# Altium footprint library PcbLib1.PcbLib: 9 footprints
Each footprint in its own frame and in the unit in brackets; x right, y up, seen from the top. Pads: shape width x height; smd on the part's side, far side on the other; paste and mask are expansions set on the pad; w line width, h text height; cw(c..) or ccw(c..) is an arc to the next point about the centre after c.
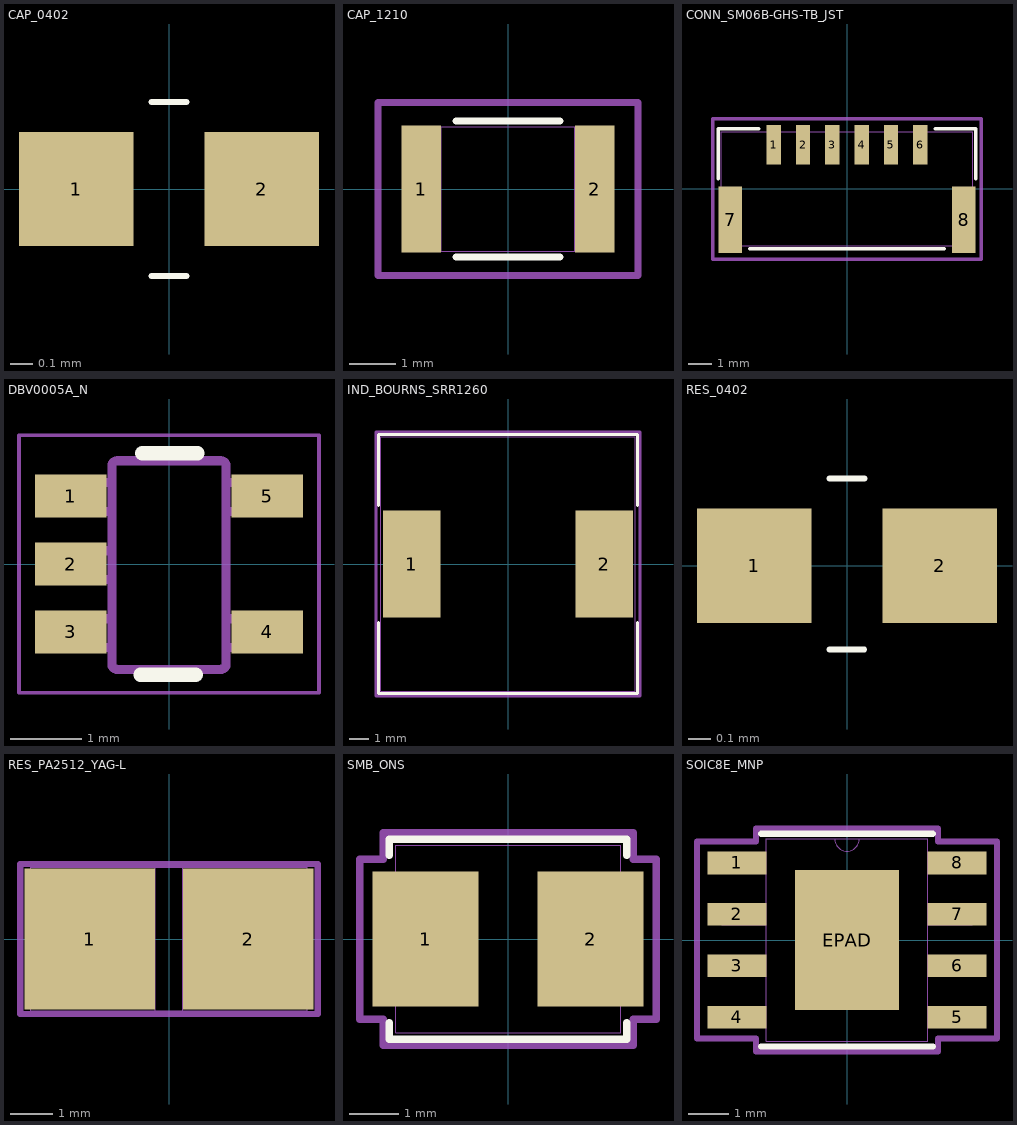
[diagram p0: the footprints below, top view; thin cyan lines are the x and y axes]

## CAP_0402 [mm] "Capacitor"
height 0.5
pads (2):
  rect 0.5x0.5 smd mask+0.051: 1(-0.406,0) 2(0.406,0)
Top Overlay:
  lines w0.025: -0.076,-0.381 0.076,-0.381 ; -0.076,0.381 0.076,0.381
3D body "c0402c101j5gactu.stp": height 0.55, standoff 0, extent -0.525,-0.279 0.525,0.271

## CAP_1210 [mil]
pads (2):
  rect 34x108 smd paste+0 mask+0: 1(-74,0) 2(74,0)
Top Overlay:
  lines w6: -44.53,-58 44.53,-58 ; -44.53,58 44.53,58
Mechanical 13:
  circle w0: c-69,0 r3
  lines w1: -69,-53 -69,53 ; -69,-53 -57,-53 -57,53 -69,53 ; -69,-53 69,-53 ; -69,-53 -69,53 ; -69,53 69,53 ; 69,-53 57,-53 57,53 69,53 ; 69,-53 69,53 ; 69,-53 69,53
Mechanical 15:
  lines w6: -111,-74 -111,74 111,74 111,-74 -111,-74
3D body "CAP_GRM32E_MUR.step": height 105.98, standoff 0, extent -69.02,-52.99 69.02,52.99

## CONN_SM06B-GHS-TB_JST [mil]
pads (8):
  rect 24x67 smd paste+0 mask+0: 1(-123.03,73.85) 2(-73.82,73.85) 3(-24.61,73.85) 4(24.61,73.85) 5(73.82,73.85) 6(123.03,73.85)
  rect 39x112 smd paste-56 mask-56: 7(-195.87,-52.14) 8(195.87,-52.14)
Top Overlay:
  lines w6: -216.5,16.91 -216.5,100.5 -148.13,100.5 ; -163.27,-100.5 163.27,-100.5 ; 148.13,100.5 216.5,100.5 216.5,16.91
Mechanical 13:
  lines w1: -211.5,-95.5 211.5,-95.5 211.5,95.5 -211.5,95.5 -211.5,-95.5
Mechanical 15:
  lines w6: -225.37,-118.14 -225.37,117.35 225.37,117.35 225.37,-118.14 -225.37,-118.14
3D body "SM06B-GHS-TB.STEP": height 167.32, standoff 0, extent -211.61,-95.63 211.61,95.32

## DBV0005A_N [mm]
pads (5):
  rect 1x0.6 smd paste+0 mask+0.051: 1(-1.375,0.95) 2(-1.375,0) 3(-1.375,-0.95) 4(1.375,-0.95) 5(1.375,0.95)
Top Overlay:
  lines w0.2: -0.4,-1.55 0.375,-1.55 ; -0.375,1.55 0.4,1.55
Mechanical 13:
  lines w0.127: -0.801,1.371 cw(c-0.725,1.37) -0.725,1.446 ; -0.801,1.37 -0.801,1.371 ; -0.801,1.37 -0.801,-1.399 -0.801,-1.4 ccw(c-0.725,-1.399) -0.725,-1.475 ; -0.725,-1.475 0.723,-1.475 0.724,-1.475 ccw(c0.723,-1.399) 0.799,-1.4 0.799,-1.399 0.799,1.37 ; -0.725,-1.475 -0.725,-1.475 ; -0.725,1.446 -0.725,1.446 ; -0.725,1.446 0.723,1.446 0.724,1.446 cw(c0.723,1.37) 0.799,1.371 ; 0.799,1.37 0.799,1.371 ; -1.423,-1.167 -1.423,-0.767 -1.199,-0.767 -1.105,-0.767 -1.088,-0.767 -0.835,-0.767 -0.801,-0.767 -0.801,-1.167 -0.835,-1.167 -1.088,-1.167 -1.105,-1.167 -1.199,-1.167 -1.423,-1.167 ; -1.423,-0.215 -1.423,0.186 -1.199,0.186 -1.105,0.186 -1.088,0.186 -0.835,0.186 -0.801,0.186 -0.801,-0.215 -0.835,-0.215 -1.088,-0.215 -1.105,-0.215 -1.199,-0.215 -1.423,-0.215 ; -1.423,0.738 -1.423,1.138 -1.199,1.138 -1.105,1.138 -1.088,1.138 -0.835,1.138 -0.801,1.138 -0.801,0.738 -0.835,0.738 -1.088,0.738 -1.105,0.738 -1.199,0.738 -1.423,0.738 ; 0.799,-1.167 0.834,-1.167 1.087,-1.167 1.103,-1.167 1.198,-1.167 1.422,-1.167 1.422,-0.767 1.198,-0.767 1.103,-0.767 1.087,-0.767 0.834,-0.767 0.799,-0.767 0.799,-1.167 ; 0.799,0.738 0.834,0.738 1.087,0.738 1.103,0.738 1.198,0.738 1.422,0.738 1.422,1.138 1.198,1.138 1.103,1.138 1.087,1.138 0.834,1.138 0.799,1.138 0.799,0.738
Mechanical 15:
  lines w0.05: -2.1,-1.8 -2.1,1.8 2.1,1.8 2.1,-1.8 -2.1,-1.8
3D body "DBV0005A.stp": height 1.2, standoff 0, extent -1.4,-1.45 1.4,1.45

## IND_BOURNS_SRR1260 [mil]
pads (2):
  rect 114x213 smd paste+0 mask+0: 1(-191,0) 2(191,0)
Top Overlay:
  lines w6: -257,-116.02 -257,-257 257,-257 257,-116.02 ; -257,116.02 -257,257 257,257 257,116.02
Mechanical 13:
  lines w1: -252,-252 -252,252 252,252 252,-252 -252,-252
Mechanical 15:
  lines w6: -262,-262 262,-262 262,-116.5 262,116.5 262,262 -262,262 -262,116.5 -262,-116.5 -262,-262
3D body "IND_BOURNS_SRR1260.step": height 255.98, standoff 0, extent -252.01,-252.09 252.01,252.09

## RES_0402 [mm]
pads (2):
  rect 0.5x0.5 smd mask+0.051: 1(-0.406,0) 2(0.406,0)
Top Overlay:
  lines w0.025: -0.077,-0.366 0.075,-0.366 ; -0.076,0.381 0.076,0.381
3D body "res0402-1.step": height 0.3, standoff 0, extent -0.5,-0.25 0.5,0.25

## RES_PA2512_YAG-L [mil]
pads (2):
  rect 123x133 smd paste+0 mask+0: 1(-74.5,0) 2(74.5,0)
Mechanical 13:
  circle w0: c-69.5,0 r3
  lines w1: -130,-67.5 -130,67.5 ; -130,-67.5 -13,-67.5 -13,67.5 -130,67.5 ; -130,-67.5 130,-67.5 ; -130,-67.5 -130,67.5 ; -130,67.5 130,67.5 ; 130,-67.5 13,-67.5 13,67.5 130,67.5 ; 130,-67.5 130,67.5 ; 130,-67.5 130,67.5
Mechanical 15:
  lines w6: -140,-70.5 -140,70.5 140,70.5 140,-70.5 -140,-70.5
3D body "RES_PA2512_YAG.step": height 35, standoff 0, extent -130,-67.48 130,67.48

## SMB_ONS [mil]
pads (2):
  rect 85x108 smd paste+0 mask+0: 1(-66,0) 2(66,0)
Top Overlay:
  lines w6: -95,-67.1 -95,-80 95,-80 95,-67.1 ; -95,67.1 -95,80 95,80 95,67.1
Mechanical 13:
  lines w1: -90,-75 -90,75 90,75 90,-75 -90,-75
Mechanical 15:
  lines w6: -118.5,-64 -100,-64 -100,-85 100,-85 100,-64 118.5,-64 118.5,64 100,64 100,85 -100,85 -100,64 -118.5,64 -118.5,-64
3D body "SMB_ONS.step": height 97.01, standoff 0, extent -90,-75 90,75

## SOIC8E_MNP [mil]
pads (9):
  rect 57.5x22 smd paste+0 mask+0: 1(-107.25,75) 2(-107.25,25) 3(-107.25,-25) 4(-107.25,-75) 5(107.25,-75) 6(107.25,-25) 7(107.25,25) 8(107.25,75)
  rect 101x136 smd paste-67.5 mask+0: EPAD(0,0)
Top Overlay:
  lines w6: -83.5,-103.5 83.5,-103.5 ; -83.5,103.5 83.5,103.5
Top Paste:
  region: 46.56,-3.94 3.94,-3.94 3.94,-64.06 46.56,-64.06
  region: 46.56,64.06 3.94,64.06 3.94,3.94 46.56,3.94
  region: -3.94,-3.94 -46.56,-3.94 -46.56,-64.06 -3.94,-64.06
  region: -3.94,64.06 -46.56,64.06 -46.56,3.94 -3.94,3.94
Mechanical 13:
  lines w0: -12,98.5 ccw(c0,98.5) 12,98.5
  lines w1: -122,-85 -78.5,-85 -78.5,-65 -122,-65 -122,-85 ; -122,-35 -78.5,-35 -78.5,-15 -122,-15 -122,-35 ; -122,15 -78.5,15 -78.5,35 -122,35 -122,15 ; -122,65 -78.5,65 -78.5,85 -122,85 -122,65 ; -78.5,-98.5 -78.5,98.5 78.5,98.5 78.5,-98.5 -78.5,-98.5 ; 78.5,-85 122,-85 122,-65 78.5,-65 78.5,-85 ; 78.5,-35 122,-35 122,-15 78.5,-15 78.5,-35 ; 78.5,15 122,15 122,35 78.5,35 78.5,15 ; 78.5,65 122,65 122,85 78.5,85 78.5,65
Mechanical 15:
  lines w6: -146,-96 -88.5,-96 -88.5,-108.5 88.5,-108.5 88.5,-96 146,-96 146,96 88.5,96 88.5,108.5 -88.5,108.5 -88.5,96 -146,96 -146,-96
3D body "SOIC8E_MNP.step": height 67.09, standoff -2.01, extent -122.01,-98.5 122.01,98.5